# Altium schematic symbol library XL6001E1.SchLib: 9 symbols
Pins are listed as number, name and electrical type; pins without a type are passive.

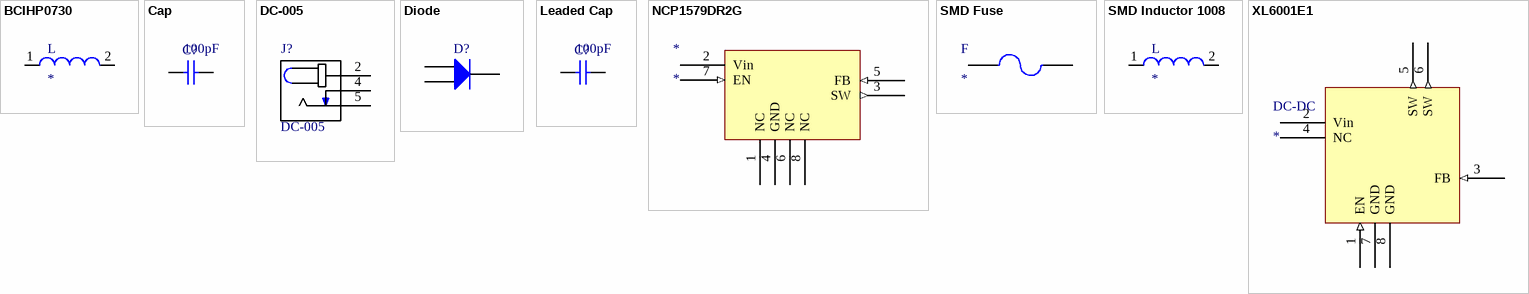
[diagram p0: symbols BCIHP0730 to XL6001E1]

## BCIHP0730
designator L
footprint 7x7
pins: 1, 2

## Cap
designator C?  value 100pF
Published: 8-Jun-2000; LatestRevisionDate: 17-Jul-2002; LatestRevisionNote: Re-released for DXP Platform.; PackageReference: RAD-0.3; Publisher: Altium Limited; PackageDescription: Radial Cap, Thru-Hole; 2 Leads; 0.3 in Pin Spacing
simulation model CAP (Capacitor)
signal-integrity model Cap
footprint 1206
footprint 0805 (Chip Resistor, Body 2.0x1.2mm, IPC Medium Density)
pins: 1, 2

## DC-005
designator J?
MF: Best Inc.; SnapEDA_Link: https://www.snapeda.com/parts/DC-005/Best%20Inc./view-part/?ref=snap; Package: None; MP: DC-005; Price: None; Availability: Unavailable; Value: *
footprint NINIGI_DC-005
pins: 2, 4, 5

## Diode
designator D?
Published: 8-Jun-2000; LatestRevisionDate: 17-Jul-2002; LatestRevisionNote: Re-released for DXP Platform.; PackageVersion: Sep-1996; PackageReference: SMC; Publisher: Altium Limited; PackageDescription: DO-214-AB/SMC; 2 C-Bend Leads; Body 7.9 x 5.9 mm, inc. leads (LxW); Code_JEDEC: DO-214-AB
simulation model DIODE (Diode)
signal-integrity model Diode
footprint PowerDi5
pins: 1 A, 2 A, 3 K

## Leaded Cap
designator C?  value 100pF
Published: 8-Jun-2000; LatestRevisionDate: 17-Jul-2002; LatestRevisionNote: Re-released for DXP Platform.; PackageReference: RAD-0.3; Publisher: Altium Limited; PackageDescription: Radial Cap, Thru-Hole; 2 Leads; 0.3 in Pin Spacing
simulation model CAP (Capacitor)
signal-integrity model Cap
footprint RAD-0.1 (Radial Cap, Thru-Hole; 2 Leads; 0.1 in Pin Spacing)
pins: 1, 2

## NCP1579DR2G
designator *
footprint SOP8-Buck
pins: 1 NC, 2 Vin (power), 3 SW (out), 4 GND (power), 5 FB (in), 6 NC, 7 EN (in), 8 NC

## SMD Fuse
designator F
footprint 1206
pins: 1, 2

## SMD Inductor 1008
designator L
footprint 1008 Inductor
pins: 1, 2

## XL6001E1
designator DC-DC
footprint SOP8
pins: 1 EN (in), 2 Vin (power), 3 FB (in), 4 NC, 5 SW (out), 6 SW (out), 7 GND (power), 8 GND (power)